# Altium footprint library sensor-comus-group.PCBLIB: 1 footprints
Each footprint in its own frame and in the unit in brackets; x right, y up, seen from the top. Pads: shape width x height; smd on the part's side, far side on the other; paste and mask are expansions set on the pad; w line width, h text height; cw(c..) or ccw(c..) is an arc to the next point about the centre after c.
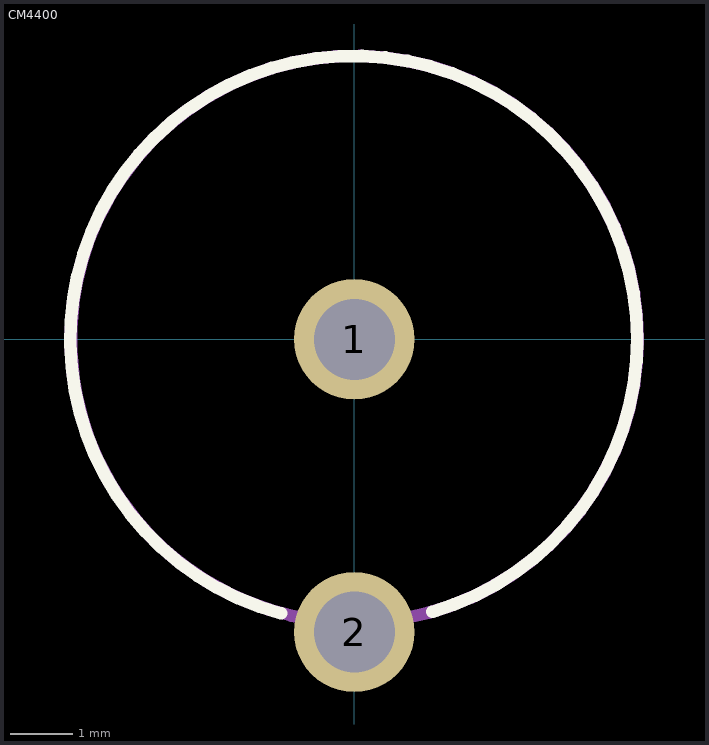
[diagram p0: the footprint, top view; thin cyan lines are the x and y axes]

## CM4400 [mil]
pads (2):
  round 76 hole 51.18: 1(0,0) 2(0,-185.04)
Top Overlay:
  lines w8: -46.26,-173.23 cw(c-0.32,-0.05) 49.21,-172.24
Mechanical 16:
  circle w8: c0,0 r179.13